# EAGLE library part CSK_BUS (library DSDEagleLibrary)
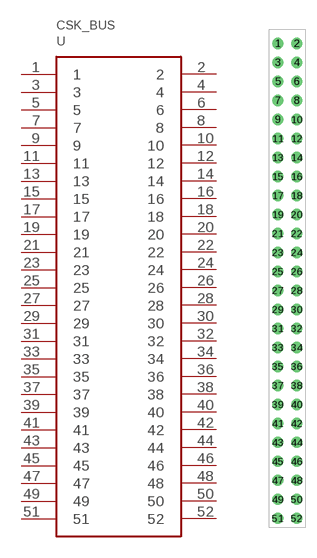
[diagram p8: symbol with the pads of CSK_BUS; footprint CSK_BUS]

Designator prefix -

## CSK_BUS  [CSK_BUS]
1  1
2  2
3  3
4  4
5  5
6  6
7  7
8  8
9  9
10  10
11  11
12  12
13  13
14  14
15  15
16  16
17  17
18  18
19  19
20  20
21  21
22  22
23  23
24  24
25  25
26  26
27  27
28  28
29  29
30  30
31  31
32  32
33  33
34  34
35  35
36  36
37  37
38  38
39  39
40  40
41  41
42  42
43  43
44  44
45  45
46  46
47  47
48  48
49  49
50  50
51  51
52  52

## Footprint CSK_BUS (pad centres in mm)
drill 1.016: 1 1.245,-1.854; 2 3.785,-1.854; 3 1.245,-4.394; 4 3.785,-4.394; 5 1.245,-6.934; 6 3.785,-6.934; 7 1.245,-9.474; 8 3.785,-9.474; 9 1.245,-12.014; 10 3.785,-12.014; 11 1.245,-14.554; 12 3.785,-14.554; 13 1.245,-17.094; 14 3.785,-17.094; 15 1.245,-19.634; 16 3.785,-19.634; 17 1.245,-22.174; 18 3.785,-22.174; 19 1.245,-24.714; 20 3.785,-24.714; 21 1.245,-27.254; 22 3.785,-27.254; 23 1.245,-29.794; 24 3.785,-29.794; 25 1.245,-32.334; 26 3.785,-32.334; 27 1.245,-34.874; 28 3.785,-34.874; 29 1.245,-37.414; 30 3.785,-37.414; 31 1.245,-39.954; 32 3.785,-39.954; 33 1.245,-42.494; 34 3.785,-42.494; 35 1.245,-45.034; 36 3.785,-45.034; 37 1.245,-47.574; 38 3.785,-47.574; 39 1.245,-50.114; 40 3.785,-50.114; 41 1.245,-52.654; 42 3.785,-52.654; 43 1.245,-55.194; 44 3.785,-55.194; 45 1.245,-57.734; 46 3.785,-57.734; 47 1.245,-60.274; 48 3.785,-60.274; 49 1.245,-62.814; 50 3.785,-62.814; 51 1.245,-65.354; 52 3.785,-65.354